# Altium footprint library Main Board PCB Lib.PcbLib: 20 footprints (part 1 of 2)
Each footprint in its own frame and in the unit in brackets; x right, y up, seen from the top. Pads: shape width x height; smd on the part's side, far side on the other; paste and mask are expansions set on the pad; w line width, h text height; cw(c..) or ccw(c..) is an arc to the next point about the centre after c.
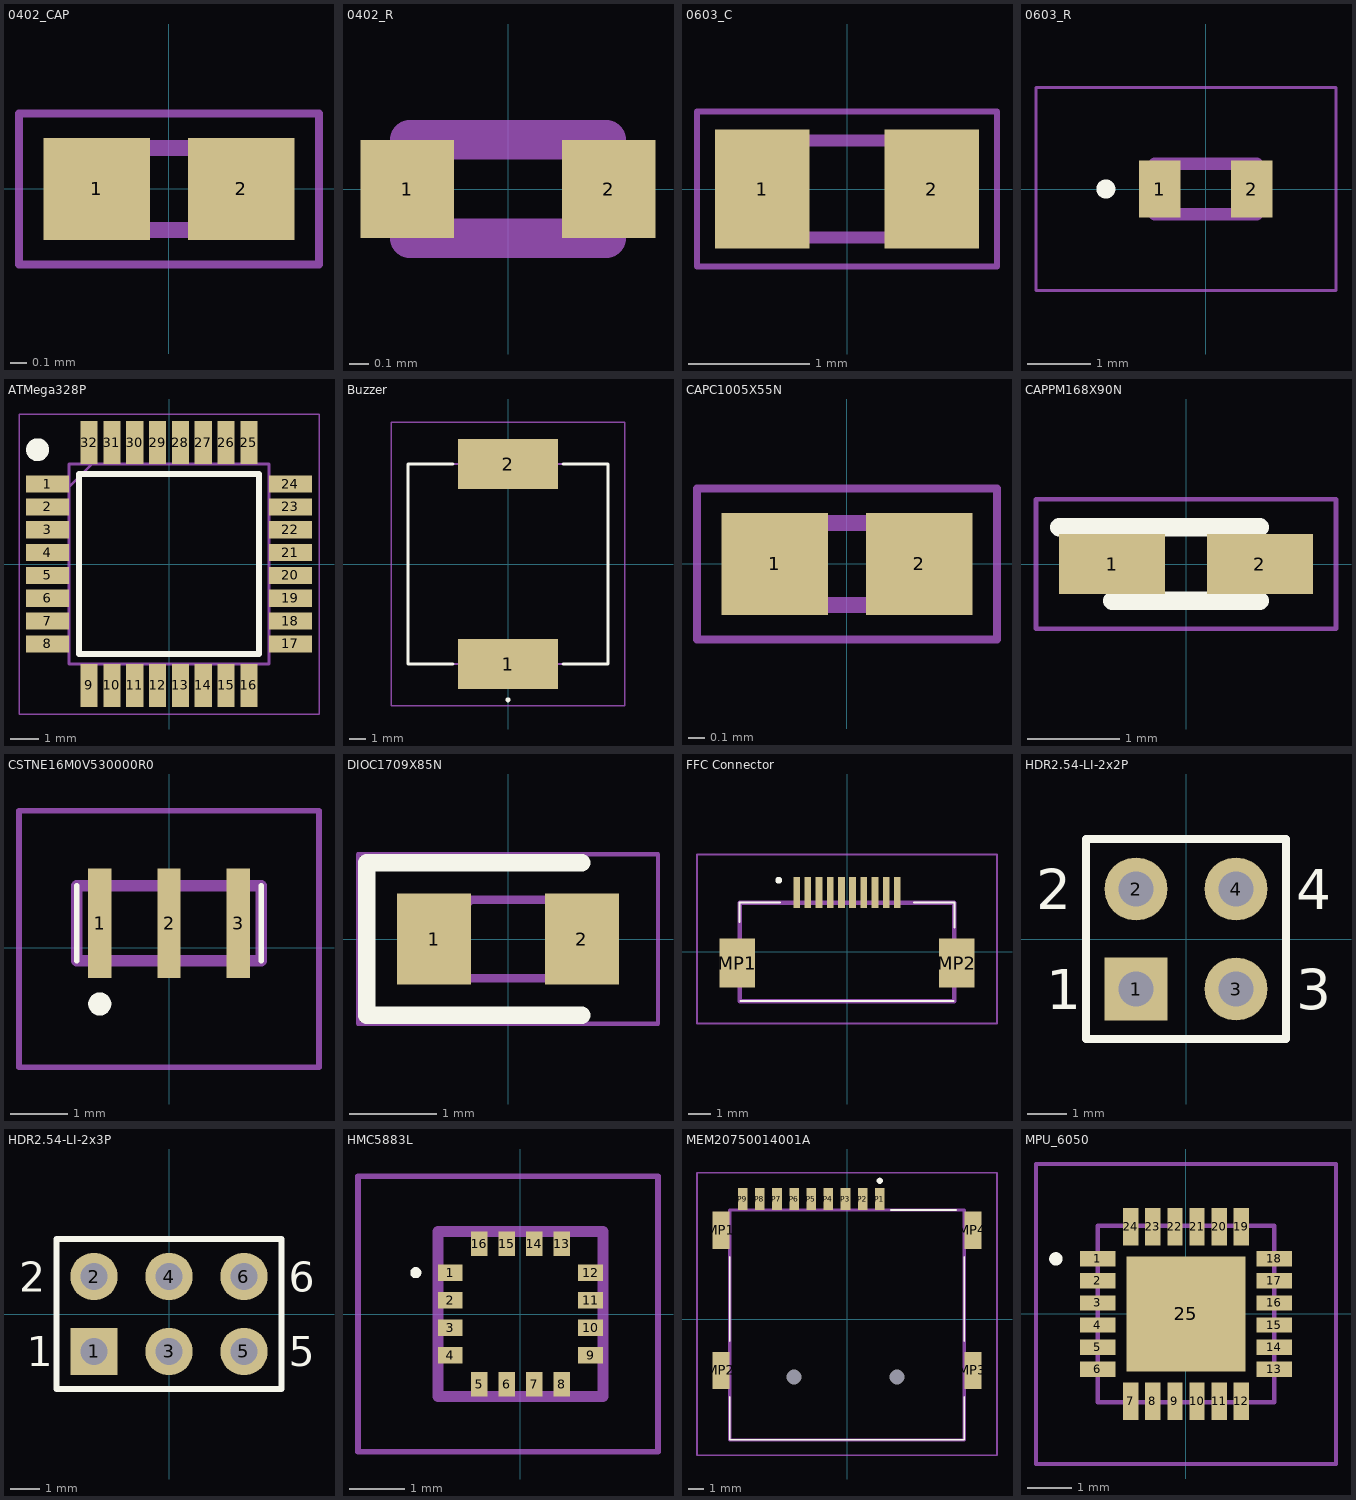
[diagram p0: the footprints below, top view; thin cyan lines are the x and y axes]

## 0402_CAP [mm]
pads (2):
  rect 0.65x0.62 smd: 1(-0.44,0) 2(0.44,0)
Mechanical 13:
  lines w0.1: -0.5,-0.25 -0.5,0.25 0.5,0.25 0.5,-0.25 -0.5,-0.25
Mechanical 15:
  lines w0.05: -0.915,-0.46 -0.915,0.46 0.915,0.46 0.915,-0.46 -0.915,-0.46
3D body "C0402C474K8RACTU.stp": height 0.55, standoff 0, extent -0.5,-0.25 0.5,0.25

## 0402_R [mm]
pads (2):
  rect 0.475x0.5 smd: 1(-0.513,0) 2(0.513,0)
Mechanical 13:
  lines w0.2: -0.5,-0.25 0.5,-0.25 0.5,0.25 -0.5,0.25 -0.5,-0.25
3D body "ERA-2ARB472X.stp": height 0.35, standoff 0, extent -0.5,-0.25 0.5,0.25

## 0603_C [mm]
pads (2):
  rect 0.78x0.98 smd: 1(-0.7,0) 2(0.7,0)
Mechanical 13:
  lines w0.1: -0.8,-0.4 -0.8,0.4 0.8,0.4 0.8,-0.4 -0.8,-0.4
Mechanical 15:
  lines w0.05: -1.24,-0.64 -1.24,0.64 1.24,0.64 1.24,-0.64 -1.24,-0.64
3D body "VJ0603HIFRQ1KIT.stp": height 0.97, standoff 0, extent -0.8,-0.4 0.8,0.4

## 0603_R [mm]
pads (2):
  rect 0.65x0.9 smd: 1(-0.725,0) 2(0.725,0)
Top Overlay:
  circle w0.2: c-1.575,0 r0.05
Mechanical 13:
  lines w0.2: -0.8,-0.4 0.8,-0.4 0.8,0.4 -0.8,0.4 -0.8,-0.4
Mechanical 15:
  lines w0.05: -2.675,-1.6 2.05,-1.6 2.05,1.6 -2.675,1.6 -2.675,-1.6
3D body "ERA-3KEB2403V.stp": height 0.46, standoff 0, extent -0.8,-0.4 0.8,0.4

## ATMega328P [mm]
pads (32):
  rect 1.5x0.6 smd: 1(-4.25,2.8) 2(-4.25,2) 3(-4.25,1.2) 4(-4.25,0.4) 5(-4.25,-0.4) 6(-4.25,-1.2) 7(-4.25,-2) 8(-4.25,-2.8) 17(4.25,-2.8) 18(4.25,-2) 19(4.25,-1.2) 20(4.25,-0.4) 21(4.25,0.4) 22(4.25,1.2) 23(4.25,2) 24(4.25,2.8)
  rect 0.6x1.5 smd: 9(-2.8,-4.25) 10(-2,-4.25) 11(-1.2,-4.25) 12(-0.4,-4.25) 13(0.4,-4.25) 14(1.2,-4.25) 15(2,-4.25) 16(2.8,-4.25) 25(2.8,4.25) 26(2,4.25) 27(1.2,4.25) 28(0.4,4.25) 29(-0.4,4.25) 30(-1.2,4.25) 31(-2,4.25) 32(-2.8,4.25)
Top Overlay:
  circle w0.4: c-4.6,4 r0.2
  lines w0.2: -3.15,-3.15 -3.15,3.15 3.15,3.15 3.15,-3.15 -3.15,-3.15
Mechanical 13:
  lines w0.1: -3.5,2.7 -2.7,3.5 ; -3.5,-3.5 -3.5,3.5 3.5,3.5 3.5,-3.5 -3.5,-3.5
Mechanical 15:
  lines w0.05: -5.25,-5.25 -5.25,5.25 5.25,5.25 5.25,-5.25 -5.25,-5.25
3D body "ATMEGA328PB-AU.stp": height 1.2, standoff 0, extent -4.5,-4.5 4.5,4.5

## Buzzer [mm]
pads (2):
  rect 6x3 smd: 1(0,-6) 2(0,6)
Top Overlay:
  lines w0.2: -3.3,-6 -6,-6 -6,6 -3.3,6 ; 3.3,-6 6,-6 6,6 3.3,6 ; 0,-8.2 ccw(c0,-8.15) 0,-8.1 ; 0,-8.2 cw(c0,-8.15) 0,-8.1 ; 0,-8.2 ccw(c0,-8.15) 0,-8.1
Mechanical 13:
  lines w0.1: -6,-6 6,-6 6,6 -6,6 -6,-6
Mechanical 15:
  lines w0.1: -7,-8.5 7,-8.5 7,8.5 -7,8.5 -7,-8.5
3D body "CPT-12123-81-SMT-TR.stp": height 3.4, standoff 0, extent -6,-7.2 6,7.2

## CAPC1005X55N [mm]
pads (2):
  rect 0.65x0.62 smd: 1(-0.44,0) 2(0.44,0)
Mechanical 13:
  lines w0.1: -0.5,-0.25 0.5,-0.25 0.5,0.25 -0.5,0.25 -0.5,-0.25
Mechanical 15:
  lines w0.05: -0.915,-0.46 0.915,-0.46 0.915,0.46 -0.915,0.46 -0.915,-0.46
3D body "C0402C474K8RACTU.stp": height 0.55, standoff 0, extent -0.5,-0.25 0.5,0.25

## CAPPM168X90N [mm]
pads (2):
  rect 1.15x0.65 smd: 1(-0.8,0) 2(0.8,0)
Top Overlay:
  lines w0.2: -1.375,0.4 0.8,0.4 ; -0.8,-0.4 0.8,-0.4
Mechanical 13:
  lines w0.1: -0.8,0.075 -0.475,0.4 ; -0.8,-0.4 0.8,-0.4 0.8,0.4 -0.8,0.4 -0.8,-0.4
Mechanical 15:
  lines w0.05: -1.625,-0.7 1.625,-0.7 1.625,0.7 -1.625,0.7 -1.625,-0.7
3D body "TMCJ0J475MTRF.stp": height 0.9, standoff 0, extent -0.8,-0.4 0.8,0.4

## CSTNE16M0V530000R0 [mm]
pads (3):
  rect 0.4x1.9 smd: 1(-1.2,0.425) 2(0,0.425) 3(1.2,0.425)
Top Overlay:
  lines w0.1: -1.6,-0.225 -1.6,1.075 ; 1.6,-0.225 1.6,1.075
  lines w0.2: -1.3,-0.975 ccw(c-1.2,-0.975) -1.1,-0.975 ccw(c-1.2,-0.975) -1.3,-0.975
Mechanical 13:
  lines w0.2: -1.6,-0.225 -1.6,1.075 1.6,1.075 1.6,-0.225 -1.6,-0.225
Mechanical 15:
  lines w0.1: -2.6,-2.075 -2.6,2.375 2.6,2.375 2.6,-2.075 -2.6,-2.075
3D body "CSTNE16M0V530000R0.stp": height 0.9, standoff 0, extent -1.6,-0.19 1.6,1.11

## DIOC1709X85N [mm]
pads (2):
  rect 0.85x1.05 smd: 1(-0.85,0) 2(0.85,0)
Top Overlay:
  lines w0.2: 0.85,-0.875 -1.625,-0.875 -1.625,0.875 0.85,0.875
Mechanical 13:
  lines w0.1: -0.85,0.025 -0.425,0.45 ; -0.85,-0.45 0.85,-0.45 0.85,0.45 -0.85,0.45 -0.85,-0.45
Mechanical 15:
  lines w0.05: -1.725,-0.975 1.725,-0.975 1.725,0.975 -1.725,0.975 -1.725,-0.975
3D body "CDBU0520.stp": height 0.85, standoff 0, extent -0.85,-0.45 0.85,0.45

## FFC Connector [mm]
pads (12):
  rect 0.3x1.4 smd: 1(-2.25,2.65) 2(-1.75,2.65) 3(-1.25,2.65) 4(-0.75,2.65) 5(-0.25,2.65) 6(0.25,2.65) 7(0.75,2.65) 8(1.25,2.65) 9(1.75,2.65) 10(2.25,2.65)
  rect 1.6x2.2 smd: MP1(-4.9,-0.5) MP2(4.9,-0.5)
Top Overlay:
  lines w0.1: -4.8,2.2 -3,2.2 -4.8,2.2 ; -4.8,2.2 -4.8,1.35 -4.8,2.2 ; 4.8,2.2 4.8,1.1 4.8,2.2 ; 4.8,2.2 3,2.2 4.8,2.2 ; -4.75,-2.2 4.75,-2.2 -4.75,-2.2
  lines w0.2: -3.1,3.2 ccw(c-3.05,3.2) -3,3.2 ; -3.1,3.2 cw(c-3.05,3.2) -3,3.2 ; -3.1,3.2 ccw(c-3.05,3.2) -3,3.2
Mechanical 13:
  lines w0.2: -4.8,-2.2 4.8,-2.2 4.8,2.2 -4.8,2.2 -4.8,-2.2
Mechanical 15:
  lines w0.1: -6.7,-3.2 6.7,-3.2 6.7,4.35 -6.7,4.35 -6.7,-3.2
3D body "52892-1033.stp": height 2.1, standoff 0, extent -5.54,-2.2 5.54,3.32

## HDR2.54-LI-2x2P [mm] "双排排针，2x2脚"
pads (4):
  rect 1.6x1.6 hole 0.9: 1(-1.27,-1.27)
  round 1.6 hole 0.9: 2(-1.27,1.27) 3(1.27,-1.27) 4(1.27,1.27)
Top Overlay:
  lines w0.2: -2.54,-2.54 -2.54,2.54 2.54,2.54 2.54,-2.54 -2.54,-2.54
  text "1" at -3.556,-1.778 h1.02
  text "2" at -3.81,0.762 h1.02
  text "4" at 2.794,0.762 h1.02
  text "3" at 2.794,-1.778 h1.02
3D body "HDR2.54-1x2P.STEP": height 8.5, standoff -3, extent -2.54,-2.54 0,2.54
3D body "HDR2.54-1x2P.STEP": height 8.5, standoff -3, extent 0,-2.54 2.54,2.54

## HDR2.54-LI-2x3P [mm] "双排排针，3x2脚"
pads (6):
  rect 1.6x1.6 hole 0.9: 1(-2.54,-1.27)
  round 1.6 hole 0.9: 2(-2.54,1.27) 3(0,-1.27) 4(0,1.27) 5(2.54,-1.27) 6(2.54,1.27)
Top Overlay:
  lines w0.2: -1.058,-2.54 3.81,-2.54 ; 3.81,-2.54 3.81,2.54 -3.81,2.54 -3.81,-2.54 3.81,-2.54
  text "6" at 4.064,0.762 h1.02
  text "5" at 4.064,-1.778 h1.02
  text "2" at -5.08,0.762 h1.02
  text "1" at -4.826,-1.778 h1.02
3D body "HDR2.54-1x2P.STEP": height 8.5, standoff -3, extent 1.27,-2.54 3.81,2.54
3D body "HDR2.54-1x2P.STEP": height 8.5, standoff -3, extent -3.81,-2.54 -1.27,2.54
3D body "HDR2.54-1x2P.STEP": height 8.5, standoff -3, extent -1.27,-2.54 1.27,2.54

## HMC5883L [mm]
pads (16):
  rect 0.45x0.3 smd: 1(-1.275,0.75) 2(-1.275,0.25) 3(-1.275,-0.25) 4(-1.275,-0.75) 9(1.275,-0.75) 10(1.275,-0.25) 11(1.275,0.25) 12(1.275,0.75)
  rect 0.3x0.45 smd: 5(-0.75,-1.275) 6(-0.25,-1.275) 7(0.25,-1.275) 8(0.75,-1.275) 13(0.75,1.275) 14(0.25,1.275) 15(-0.25,1.275) 16(-0.75,1.275)
Top Overlay:
  lines w0.1: -1.9,0.7 cw(c-1.9,0.75) -1.9,0.8 cw(c-1.9,0.75) -1.9,0.7
Mechanical 13:
  lines w0.2: -1.5,-1.5 1.5,-1.5 1.5,1.5 -1.5,1.5 -1.5,-1.5
Mechanical 15:
  lines w0.1: -2.95,-2.5 2.5,-2.5 2.5,2.5 -2.95,2.5 -2.95,-2.5
3D body "HMC5883L.stp": height 0.9, standoff 0, extent -1.5,-1.5 1.5,1.5

## MEM20750014001A [mm]
pads (15):
  round 0.475 hole 0.95 unplated: 14(-3.395,-3.695) 15(3.205,-3.695)
  rect 1.1x2.4 smd: MP1(-8.075,5.725) MP2(-8.075,-3.275) MP3(8.075,-3.275) MP4(8.075,5.725)
  rect 0.62x1.4 smd: P1(2.105,7.725) P2(1.005,7.725) P3(-0.095,7.725) P4(-1.195,7.725) P5(-2.295,7.725) P6(-3.395,7.725) P7(-4.495,7.725) P8(-5.595,7.725) P9(-6.695,7.725)
Top Overlay:
  lines w0.1: -7.525,-4.975 -7.525,-7.725 7.525,-7.725 7.525,-4.975 ; -7.525,-1.4 -7.525,4.025 ; 2.8,7.025 7,7.025 ; 7.525,-1.4 7.525,4.025
  lines w0.2: 2,8.9 ccw(c2.1,8.9) 2.2,8.9 ccw(c2.1,8.9) 2,8.9
Mechanical 13:
  lines w0.2: -7.525,-7.725 7.525,-7.725 7.525,7.025 -7.525,7.025 -7.525,-7.725
Mechanical 15:
  lines w0.1: -9.625,-8.725 9.625,-8.725 9.625,9.425 -9.625,9.425 -9.625,-8.725
3D body "MEM2075-00-140-01-A.stp": height 1.4, standoff -0.6, extent -8.215,-8.124 8.225,7.726

## MPU_6050 [mm]
pads (25):
  rect 0.8x0.35 smd: 1(-2,1.25) 2(-2,0.75) 3(-2,0.25) 4(-2,-0.25) 5(-2,-0.75) 6(-2,-1.25) 13(2,-1.25) 14(2,-0.75) 15(2,-0.25) 16(2,0.25) 17(2,0.75) 18(2,1.25)
  rect 0.35x0.85 smd: 7(-1.25,-1.975) 8(-0.75,-1.975) 9(-0.25,-1.975) 10(0.25,-1.975) 11(0.75,-1.975) 12(1.25,-1.975) 19(1.25,1.975) 20(0.75,1.975) 21(0.25,1.975) 22(-0.25,1.975) 23(-0.75,1.975) 24(-1.25,1.975)
  rect 2.7x2.6 smd: 25(0,0)
Top Overlay:
  lines w0.2: -3,1.25 ccw(c-2.95,1.25) -2.9,1.25 ; -3,1.25 cw(c-2.95,1.25) -2.9,1.25 ; -3,1.25 ccw(c-2.95,1.25) -2.9,1.25
Mechanical 13:
  lines w0.1: -2,-2 -2,2 2,2 2,-2 -2,-2
Mechanical 15:
  lines w0.1: -3.4,-3.4 -3.4,3.4 3.4,3.4 3.4,-3.4 -3.4,-3.4
3D body "MPU-6050.stp": height 0.88, standoff -0.02, extent -2,-2 2,2